# EAGLE library part 8287-A (library micro-siemens)
MICROPROCESSOR/PERIPHERAL DEVICE
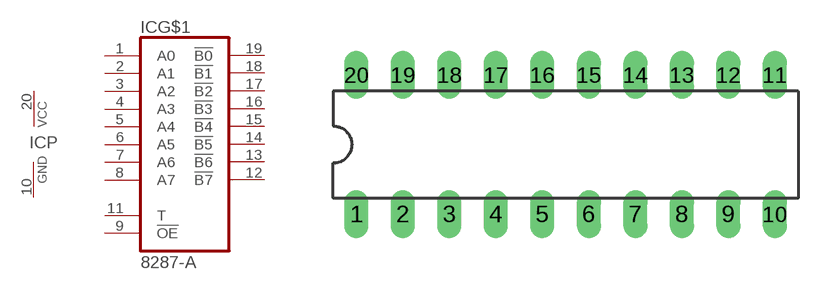
[diagram p29: symbol with the pads of DIL20; footprint DIL20]

Designator prefix IC; gates G$1=8287-A P=VCCGND

## 8287-A (OC_FARNELL: unknown; OC_NEWARK: unknown)  [DIL20]
1  G$1:A0
2  G$1:A1
3  G$1:A2
4  G$1:A3
5  G$1:A4
6  G$1:A5
7  G$1:A6
8  G$1:A7
9  G$1:!OE  in
10  P:GND  pwr
11  G$1:T  in
12  G$1:!B7
13  G$1:!B6
14  G$1:!B5
15  G$1:!B4
16  G$1:!B3
17  G$1:!B2
18  G$1:!B1
19  G$1:!B0
20  P:VCC  pwr

## Footprint DIL20 (pad centres in mm)
Dual In Line Package
drill 0.813 long: 1 -11.43,-3.81; 2 -8.89,-3.81; 3 -6.35,-3.81; 4 -3.81,-3.81; 5 -1.27,-3.81; 6 1.27,-3.81; 7 3.81,-3.81; 8 6.35,-3.81; 9 8.89,-3.81; 10 11.43,-3.81; 11 11.43,3.81; 12 8.89,3.81; 13 6.35,3.81; 14 3.81,3.81; 15 1.27,3.81; 16 -1.27,3.81; 17 -3.81,3.81; 18 -6.35,3.81; 19 -8.89,3.81; 20 -11.43,3.81